# Altium schematic symbol library modulation_tx.SchLib: 10 symbols
Pins are listed as number, name and electrical type; pins without a type are passive.

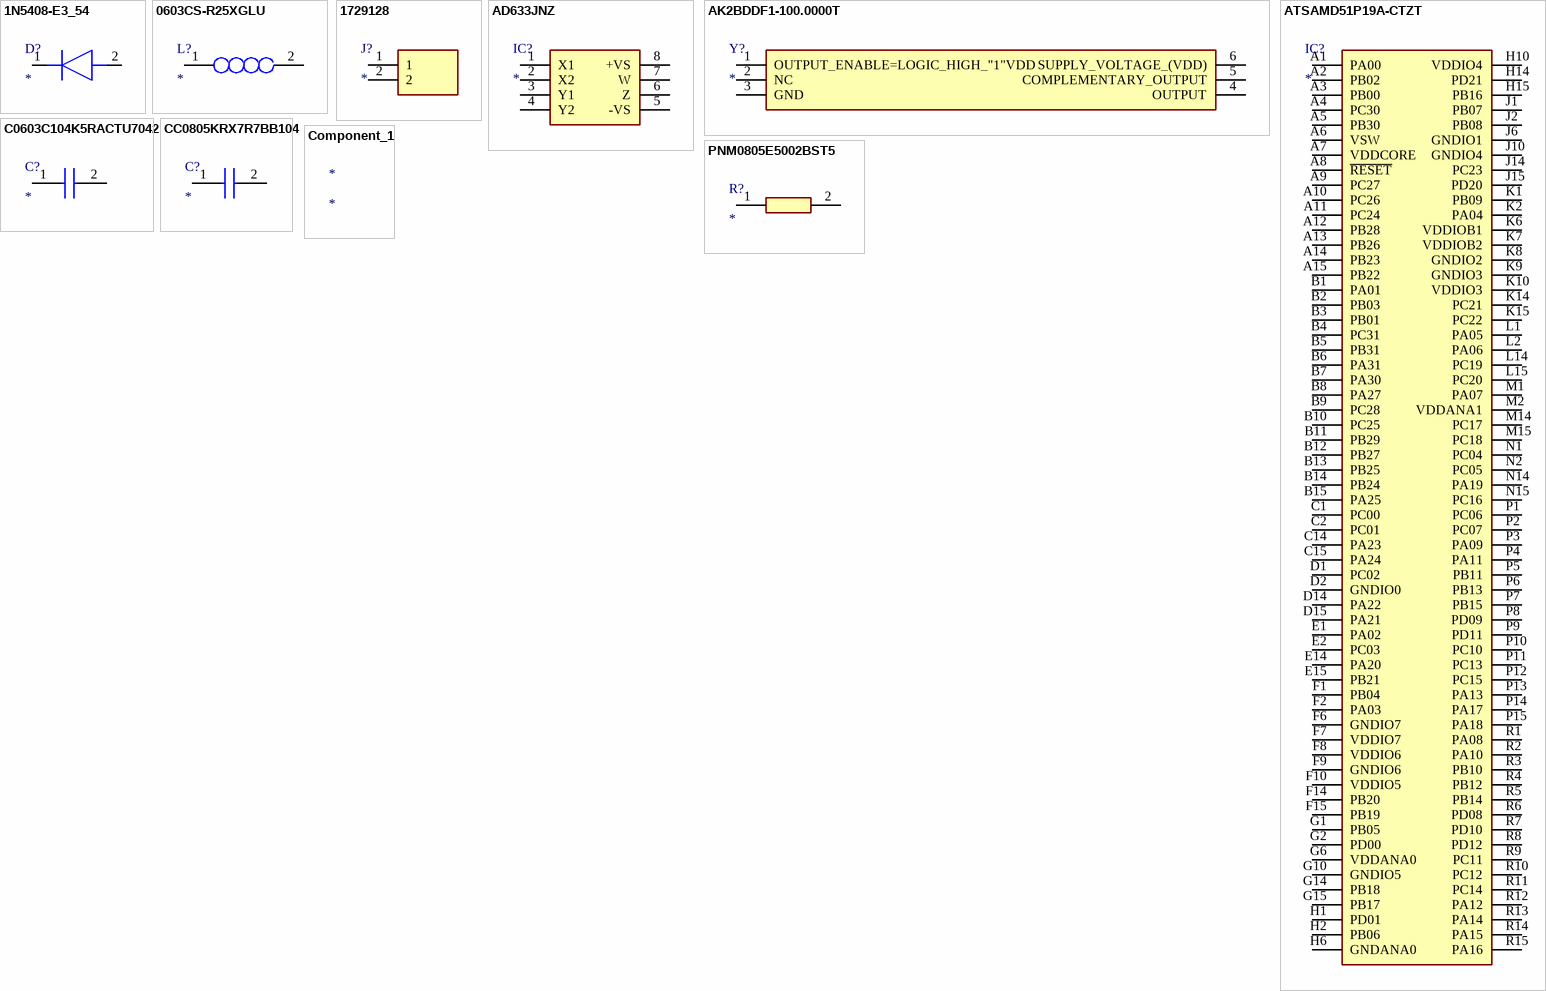
[diagram p0: symbols 1N5408-E3_54 to PNM0805E5002BST5]

## 1N5408-E3_54
designator D?
Diode; Manufacturer_Name: Vishay; Manufacturer_Part_Number: 1N5408-E3/54; Description: Rectifier Diode 3A 1000V 1.2Vf DO-201AD Vishay 1N5408-E3/54; Datasheet Link: https://www.vishay.com/docs/88516/1n5400.pdf; Mouser Part Number: 625-1N5408-E3; Mouser Price/Stock: https://www.mouser.co.uk/ProductDetail/Vishay-General-Semiconductor/1N5408-E3-54?qs=7w0fSgRKp90S1fAOemJGGg%3D%3D; Arrow Part Number: 1N5408-E3/54; Arrow Price/Stock: https://www.arrow.com/en/products/1n5408-e354/vishay
footprint DIOAD2855W132L835D505
pins: 1 K, 2 A

## 0603CS-R25XGLU
designator L?
Inductor; Manufacturer_Name: COILCRAFT; Manufacturer_Part_Number: 0603CS-R25XGLU; Datasheet Link: https://www.coilcraft.com/pdfs/0603cs.pdf; Height: 1mm
footprint 0603CS82NXGLW
pins: 1, 2

## 1729128
designator J?
Connector; Manufacturer_Name: Phoenix Contact; Manufacturer_Part_Number: 1729128; Datasheet Link: http://www.phoenixcontact.net/product/1729128; Height: 10.15mm; Mouser Part Number: 651-1729128; Mouser Price/Stock: https://www.mouser.co.uk/ProductDetail/Phoenix-Contact/1729128?qs=GFUSqQMLmmnCBVBY3dts9w%3D%3D; Arrow Part Number: 1729128; Arrow Price/Stock: https://www.arrow.com/en/products/1729128/phoenix-contact?region=nac
footprint 1729128
pins: 1, 2

## AD633JNZ
designator IC?
Integrated Circuit; Manufacturer_Name: Analog Devices; Manufacturer_Part_Number: AD633JNZ; Datasheet Link: http://www.analog.com/media/en/technical-documentation/data-sheets/AD633.pdf; Height: 5.33mm; Mouser Part Number: 584-AD633JNZ; Mouser Price/Stock: https://www.mouser.co.uk/ProductDetail/Analog-Devices/AD633JNZ?qs=NmRFExCfTkGoBbkS43oI5A%3D%3D; Arrow Part Number: AD633JNZ; Arrow Price/Stock: https://www.arrow.com/en/products/ad633jnz/analog-devices?region=europe
footprint DIP794W56P254L959H533Q8N
pins: 1 X1, 2 X2, 3 Y1, 4 Y2, 5 -VS, 6 Z, 7 W, 8 +VS

## AK2BDDF1-100.0000T
designator Y?
Crystal or Oscillator; Manufacturer_Name: ABRACON; Manufacturer_Part_Number: AK2BDDF1-100.0000T; Datasheet Link: https://abracon.com/datasheets/AK2B.pdf; Height: 1mm; Mouser Part Number: 815-AK2BDDF11000000T; Mouser Price/Stock: https://www.mouser.co.uk/ProductDetail/ABRACON/AK2BDDF1-100.0000T?qs=Imq1NPwxi76ONFYWIQZsYA%3D%3D
footprint AK2BDDF11000000T
pins: 1 OUTPUT_ENABLE=LOGIC_HIGH_"1"VDD, 2 NC, 3 GND, 4 OUTPUT, 5 COMPLEMENTARY_OUTPUT, 6 SUPPLY_VOLTAGE_(VDD)

## ATSAMD51P19A-CTZT
designator IC?
Integrated Circuit; Manufacturer_Name: Microchip; Manufacturer_Part_Number: ATSAMD51P19A-CTZT; Datasheet Link: https://datasheet.octopart.com/ATSAMD51P19A-CTZT-Microchip-datasheet-145017535.pdf; Height: 1.2mm; Arrow Part Number: ATSAMD51P19A-CTZT; Arrow Price/Stock: https://www.arrow.com/en/products/atsamd51p19a-ctzt/microchip-technology?region=nac
footprint BGA120C50P15X15_800X800X120
pins: A1 PA00, A2 PB02, A3 PB00, A4 PC30, A5 PB30, A6 VSW, A7 VDDCORE, A8 ~{RESET}, A9 PC27, A10 PC26, A11 PC24, A12 PB28, A13 PB26, A14 PB23, A15 PB22, B1 PA01, B2 PB03, B3 PB01, B4 PC31, B5 PB31, B6 PA31, B7 PA30, B8 PA27, B9 PC28, B10 PC25, B11 PB29, B12 PB27, B13 PB25, B14 PB24, B15 PA25, C1 PC00, C2 PC01, C14 PA23, C15 PA24, D1 PC02, D2 GNDIO0, D14 PA22, D15 PA21, E1 PA02, E2 PC03, E14 PA20, E15 PB21, F1 PB04, F2 PA03, F6 GNDIO7, F7 VDDIO7, F8 VDDIO6, F9 GNDIO6, F10 VDDIO5, F14 PB20, F15 PB19, G1 PB05, G2 PD00, G6 VDDANA0, G10 GNDIO5, G14 PB18, G15 PB17, H1 PD01, H2 PB06, H6 GNDANA0, H10 VDDIO4, H14 PD21, H15 PB16, J1 PB07, J2 PB08, J6 GNDIO1, J10 GNDIO4, J14 PC23, J15 PD20, K1 PB09, K2 PA04, K6 VDDIOB1, K7 VDDIOB2, K8 GNDIO2, K9 GNDIO3, K10 VDDIO3, K14 PC21, K15 PC22, L1 PA05, L2 PA06, L14 PC19, L15 PC20, M1 PA07, M2 VDDANA1, M14 PC17, M15 PC18, N1 PC04, N2 PC05, N14 PA19, N15 PC16, P1 PC06, P2 PC07, P3 PA09, P4 PA11, P5 PB11, P6 PB13, P7 PB15, P8 PD09, P9 PD11, P10 PC10, P11 PC13, P12 PC15, P13 PA13, P14 PA17, P15 PA18, R1 PA08, R2 PA10, R3 PB10, R4 PB12, R5 PB14, R6 PD08, R7 PD10, R8 PD12, R9 PC11, R10 PC12, R11 PC14, R12 PA12, R13 PA14, R14 PA15, R15 PA16

## C0603C104K5RACTU7042
designator C?
Capacitor; Manufacturer_Name: KEMET; Manufacturer_Part_Number: C0603C104K5RACTU7042; Datasheet Link: https://www.arrow.com/en/products/c0603c104k5ractu7042/kemet-corporation; Height: 0.95mm; Arrow Part Number: C0603C104K5RACTU7042; Arrow Price/Stock: https://www.arrow.com/en/products/c0603c104k5ractu7042/kemet-corporation
footprint CAPC1608X95N
pins: 1, 2

## CC0805KRX7R7BB104
designator C?
Capacitor; Manufacturer_Name: YAGEO; Manufacturer_Part_Number: CC0805KRX7R7BB104; Datasheet Link: https://www.yageo.com/en/Chart/Download/pdf/CC0805KRX7R7BB104; Height: 0.95mm; Mouser Part Number: 603-CC805KRX7R7BB104; Mouser Price/Stock: https://www.mouser.co.uk/ProductDetail/YAGEO/CC0805KRX7R7BB104?qs=AgBp2OyFlx9i%252BgKMLa7NIA%3D%3D; Arrow Part Number: CC0805KRX7R7BB104; Arrow Price/Stock: https://www.arrow.com/en/products/cc0805krx7r7bb104/yageo?region=nac
footprint CAPC2012X95N
pins: 1, 2

## Component_1
designator *

## PNM0805E5002BST5
designator R?
Resistor; Manufacturer_Name: Vishay; Manufacturer_Part_Number: PNM0805E5002BST5; Mouser Part Number: 71-PNM0805E5002BST5; Mouser Price/Stock: https://www.mouser.co.uk/ProductDetail/Vishay-Thin-Film/PNM0805E5002BST5?qs=oBjDkOCjPF2e0mIJnhvcEA%3D%3D; Arrow Part Number: PNM0805E5002BST5; Arrow Price/Stock: https://www.arrow.com/en/products/pnm0805e5002bst5/vishay?region=nac
footprint RESC2013X65N
pins: 1, 2